# Altium footprint library PartsLib.PcbLib: 49 footprints (part 2 of 4)
Each footprint in its own frame and in the unit in brackets; x right, y up, seen from the top. Pads: shape width x height; smd on the part's side, far side on the other; paste and mask are expansions set on the pad; w line width, h text height; cw(c..) or ccw(c..) is an arc to the next point about the centre after c.
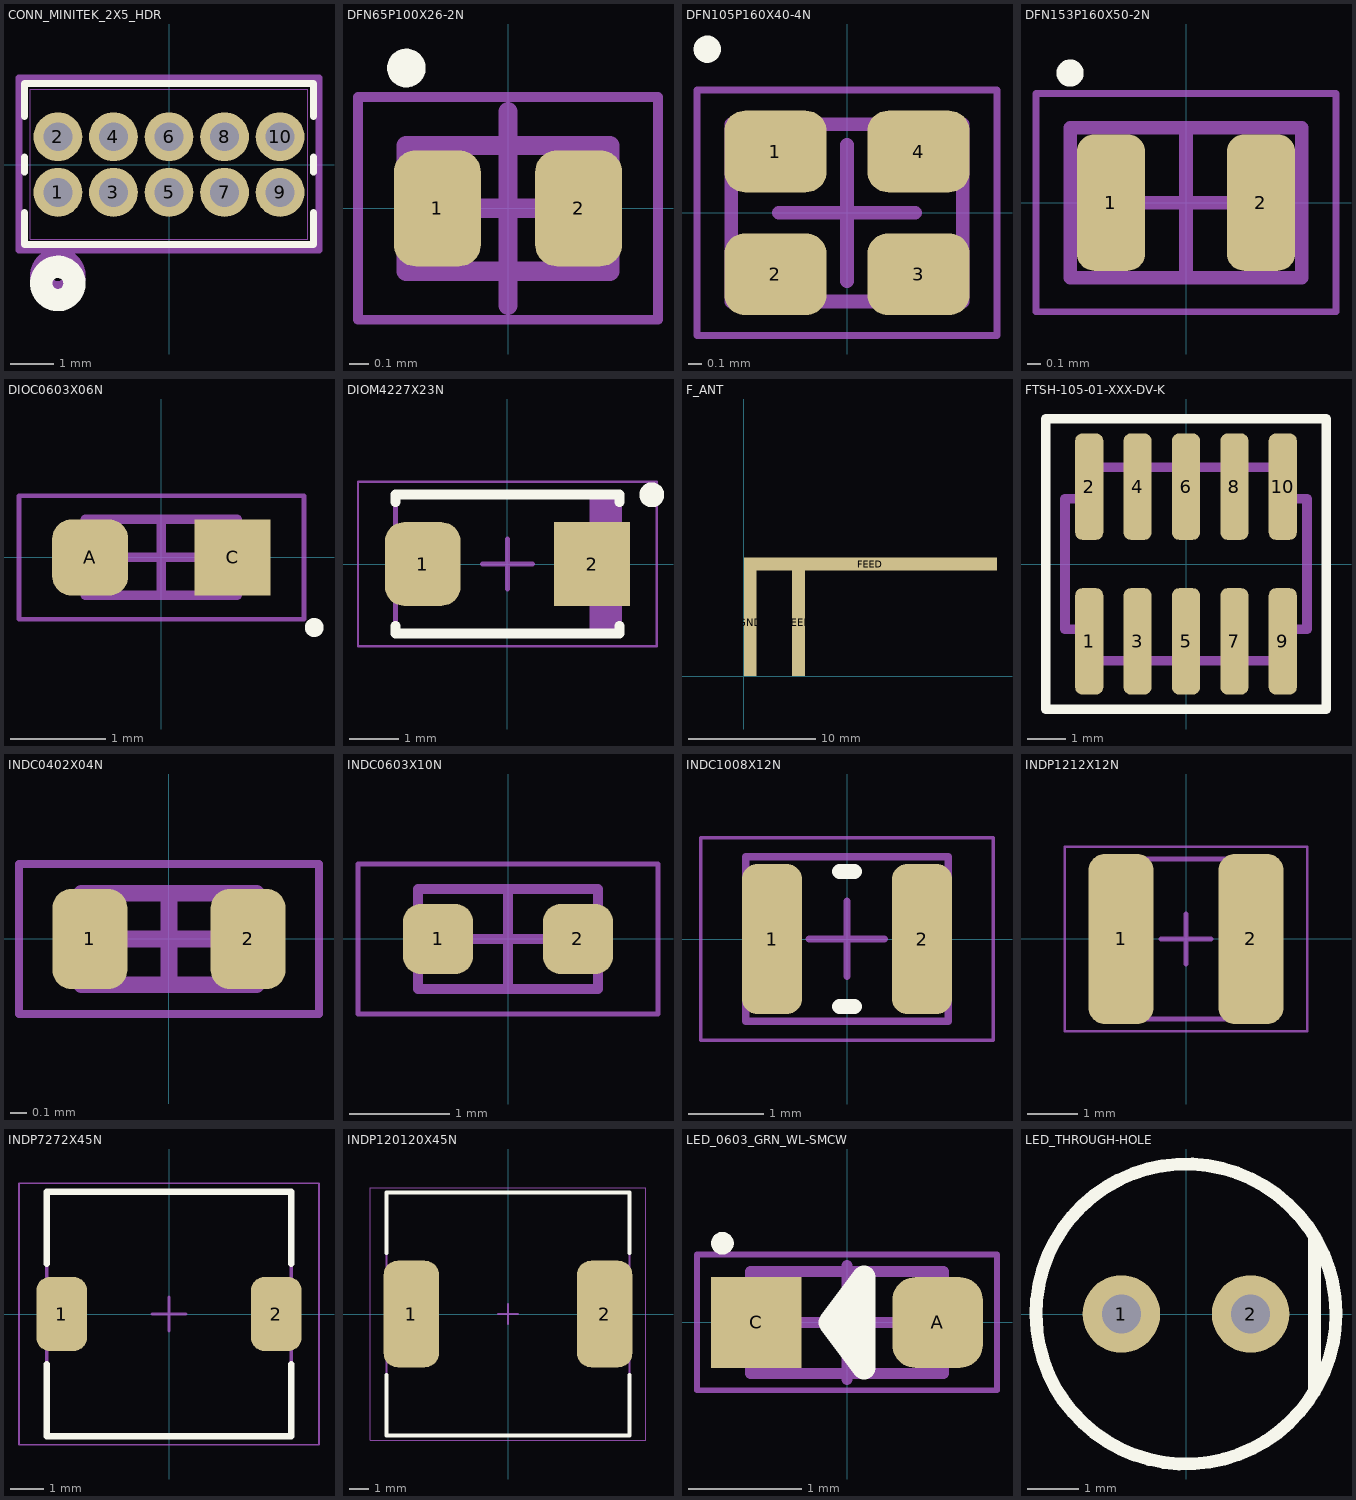
[diagram p1: the footprints below, top view; thin cyan lines are the x and y axes]

## CONN_MINITEK_2X5_HDR [mil]
pads (10):
  round 44 hole 26 mask+2.36: 1(-100,-25) 2(-100,25) 3(-50,-25) 4(-50,25) 5(0,-25) 6(0,25) 8(50,25) 10(100,25)
  round 44 hole 26 mask+2: 7(50,-25) 9(100,-25)
Top Overlay:
  circle w20: c-100,-107 r15
  lines w6: -130,-43.22 -130,-72 130,-72 130,-43.22 ; -130,-6.78 -130,6.78 ; -130,43.22 -130,73 130,73 130,43.22 ; 130,-6.78 130,6.78
Bottom Overlay:
  circle w20: c-100,-107 r15
Mechanical 13:
  circle w20: c-100,-100 r15
  lines w1: -125,-67 125,-67 125,68 -125,68 -125,-67
  text ".Designator" at -120.28,-53.75 h25.59
Mechanical 15:
  lines w6: -135,-77 -135,78 135,78 135,-77 -135,-77
3D body: height 10, standoff 0, extent -125.2,-66.54 124.8,67.72
3D body: height 10, standoff 0, extent 0,0 10,10

## DFN65P100X26-2N [mm] "DFN, 2-Leads, Body 0.60x1.00mm, Pitch 0.65mm, IPC Medium Density"
height 0.26
pads (2):
  rrect50% 0.45x0.6 smd mask+0.064: 1(-0.365,0) 2(0.365,0)
Top Overlay:
  circle w0.1: c-0.525,0.725 r0.05
Mechanical 13:
  lines w0.1: -0.525,-0.325 0.525,-0.325 0.525,0.325 -0.525,0.325 -0.525,-0.325
  text ".Designator" at -0.405,0.012 h0.65
Mechanical 15:
  lines w0.05: -0.775,-0.575 0.775,-0.575 0.775,0.575 -0.775,0.575 -0.775,-0.575
  lines w0.1: -0.5,0 0.5,0 ; 0,-0.5 0,0.5
3D body "DFN65P100X26-2N.step": height 0.26, standoff 0, extent -0.525,-0.325 0.525,0.325

## DFN105P160X40-4N [mm] "DFN, 4-Leads, Body 1.20x1.60mm, Pitch 1.05mm, IPC Medium Density"
height 0.4
pads (4):
  rrect50% 0.75x0.6 smd mask+0.064: 1(-0.525,0.45) 2(-0.525,-0.45) 3(0.525,-0.45) 4(0.525,0.45)
Top Overlay:
  circle w0.1: c-1.025,1.2 r0.05
Mechanical 13:
  lines w0.1: -0.85,-0.65 -0.85,0.65 0.85,0.65 0.85,-0.65 -0.85,-0.65
  text ".Designator" at -0.73,-0.313 h0.65
Mechanical 15:
  lines w0.05: -1.1,-0.9 -1.1,0.9 1.1,0.9 1.1,-0.9 -1.1,-0.9
  lines w0.1: -0.5,0 0.5,0 ; 0,-0.5 0,0.5
3D body "DFN105P160X40-4N.step": height 0.4, standoff 0, extent -0.85,-0.65 0.925,0.65

## DFN153P160X50-2N [mm] "DFN, 2-Leads, Body 1.00x1.60mm, Pitch 1.53mm, IPC Medium Density"
height 0.5
pads (2):
  rrect50% 0.5x1 smd mask+0.064: 1(-0.55,0) 2(0.55,0)
Top Overlay:
  circle w0.1: c-0.85,0.95 r0.05
Mechanical 13:
  lines w0.1: -0.85,-0.55 -0.85,0.55 0.85,0.55 0.85,-0.55 -0.85,-0.55
  text ".Designator" at -0.73,-0.213 h0.65
Mechanical 15:
  lines w0.05: -1.1,-0.8 -1.1,0.8 1.1,0.8 1.1,-0.8 -1.1,-0.8
  lines w0.1: -0.5,0 0.5,0 ; 0,-0.5 0,0.5
3D body "DFN153P160X50-2N.step": height 0.5, standoff 0, extent -0.99,-0.55 0.99,0.55

## DIOC0603X06N [mm] "Chip Diode, 2-Leads, Body 1.60x0.80mm, IPC Medium Density"
height 0.55
pads (2):
  rrect50% 0.8x0.8 smd mask+0.064: A(-0.75,0)
  rect 0.8x0.8 smd mask+0.064: C(0.75,0)
Top Overlay:
  circle w0.1: c1.609,-0.738 r0.05
Mechanical 13:
  lines w0.1: -0.8,-0.4 0.8,-0.4 0.8,0.4 -0.8,0.4 -0.8,-0.4
  text ".Designator" at -0.68,-0.063 h0.65
Mechanical 15:
  lines w0.05: -1.5,-0.65 1.5,-0.65 1.5,0.65 -1.5,0.65 -1.5,-0.65
  lines w0.1: -0.4,0 0.4,0 ; 0,-0.4 0,0.4
3D body "LTST-C191KRKT.STEP": height 0.8, standoff 0, extent -0.8,-0.4 0.8,0.4

## DIOM4227X23N [mm] "Molded Diode, 2-Leads, Body 4.25x2.67mm, IPC Medium Density"
height 2.29
pads (2):
  rrect50% 1.52x1.68 smd mask+0.064: 1(-1.7,0)
  rect 1.52x1.68 smd mask+0.064: 2(1.7,0)
Top Overlay:
  circle w0.25: c2.9,1.39 r0.125
  lines w0.2: -2.25,-1.24 -2.25,-1.4 2.25,-1.4 2.25,-1.24 ; -2.25,1.24 -2.25,1.4 2.25,1.4 2.25,1.24
Mechanical 13:
  rectangle: 1.645,-1.395 2.25,1.395
  lines w0.1: -2.25,-1.395 2.25,-1.395 2.25,1.395 -2.25,1.395 -2.25,-1.395
  text ".Designator" at -2.13,-1.058 h0.65
Mechanical 15:
  lines w0.05: -3,-1.65 3,-1.65 3,1.65 -3,1.65 -3,-1.65
  lines w0.1: -0.5,0 0.5,0 ; 0,-0.5 0,0.5
3D body "DIOM4227X23N.step": height 2.29, standoff 0, extent -2.47,-1.395 2.47,1.395

## F_ANT [mil]
pads (3):
  rect 40x329 smd paste-1000 mask+0: FEED(169,164.5) GND(20,164.5)
  rect 782x39 smd paste-1000 mask+0: FEED(391,346.5)

## FTSH-105-01-XXX-DV-K [mil]
pads (10):
  rrect50% 29x110 smd mask+2.52: 1(-100,-80) 2(-100,80) 3(-50,-80) 4(-50,80) 5(0,-80) 6(0,80) 7(50,-80) 8(50,80) 9(100,-80) 10(100,80)
Top Overlay:
  lines w10: -145,-150 145,-150 145,150 -145,150 -145,-150
Mechanical 1:
  lines w10: -125,-67.5 -100,-67.5 -100,-100 100,-100 100,-67.5 125,-67.5 125,67.5 100,67.5 100,100 -100,100 -100,67.5 -125,67.5 -125,-67.5
Mechanical 13:
  text ".Designator" at -112.28,-7.75 h25.59
3D body "FTSH-105-01-LM-DV-K.stp": height 240.75, standoff -0.25, extent -124.99,-114.99 125,115

## INDC0402X04N [mm] "Chip Inductor, 2-Leads, Body 1.00x0.50mm, IPC Medium Density"
height 0.37
pads (2):
  rrect50% 0.45x0.6 smd mask+0.064: 1(-0.475,0) 2(0.475,0)
Mechanical 13:
  lines w0.1: -0.525,-0.275 -0.525,0.275 0.525,0.275 0.525,-0.275 -0.525,-0.275
  text ".Designator" at -0.405,0.062 h0.65
Mechanical 15:
  lines w0.05: -0.9,-0.45 -0.9,0.45 0.9,0.45 0.9,-0.45 -0.9,-0.45
  lines w0.1: -0.275,0 0.275,0 ; 0,-0.275 0,0.275
3D body "INDC0402X04N.step": height 0.37, standoff 0, extent -0.525,-0.275 0.525,0.275

## INDC0603X10N [mm] "Chip Inductor, 2-Leads, Body 1.60x0.80mm, IPC Medium Density"
height 1
pads (2):
  rrect50% 0.7x0.7 smd mask+0.064: 1(-0.7,0) 2(0.7,0)
Mechanical 13:
  lines w0.1: -0.9,-0.5 -0.9,0.5 0.9,0.5 0.9,-0.5 -0.9,-0.5
  text ".Designator" at -0.78,-0.163 h0.65
Mechanical 15:
  lines w0.05: -1.5,-0.75 -1.5,0.75 1.5,0.75 1.5,-0.75 -1.5,-0.75
  lines w0.1: -0.5,0 0.5,0 ; 0,-0.5 0,0.5
3D body "INDC0603X10N.step": height 1, standoff 0, extent -0.9,-0.5 0.9,0.5

## INDC1008X12N [mm] "Chip Inductor, 2-Leads, Body 2.50x2.00mm, IPC Medium Density"
height 1.2
pads (2):
  rrect50% 0.8x2 smd mask+0.064: 1(-1,0) 2(1,0)
Top Overlay:
  lines w0.2: -0.1,-0.9 0.1,-0.9 ; -0.1,0.9 0.1,0.9
Mechanical 13:
  lines w0.1: -1.35,-1.1 -1.35,1.1 1.35,1.1 1.35,-1.1 -1.35,-1.1
  text ".Designator" at -1.23,-0.763 h0.65
Mechanical 15:
  lines w0.05: -1.95,-1.35 -1.95,1.35 1.95,1.35 1.95,-1.35 -1.95,-1.35
  lines w0.1: -0.5,0 0.5,0 ; 0,-0.5 0,0.5
3D body "INDC1008X12N.step": height 1.2, standoff 0, extent -1.35,-1.1 1.35,1.1

## INDP1212X12N [mm] "Precision Wire Wound Inductor, 2-Leads, Body 3.00x3.00mm, IPC Medium Density"
height 1.2
pads (2):
  rrect50% 1.3x3.4 smd mask+0.064: 1(-1.3,0) 2(1.3,0)
Mechanical 13:
  lines w0.1: -1.6,-1.6 1.6,-1.6 1.6,1.6 -1.6,1.6 -1.6,-1.6
  text ".Designator" at -1.48,-1.263 h0.65
Mechanical 15:
  lines w0.05: -2.425,-1.85 2.425,-1.85 2.425,1.85 -2.425,1.85 -2.425,-1.85
  lines w0.1: -0.5,0 0.5,0 ; 0,-0.5 0,0.5
3D body "INDP1212X12N.step": height 1.3, standoff 0, extent -1.6,-1.5 1.6,1.5

## INDP7272X45N [mm] "Precision Wire Wound Inductor, 2-Leads, Body 7.20x7.20mm, IPC Medium Density"
height 4.5
pads (2):
  rrect50% 1.5x2.2 smd mask+0.064: 1(-3.2,0) 2(3.2,0)
Top Overlay:
  lines w0.2: -3.65,-1.5 -3.65,-3.65 3.65,-3.65 3.65,-1.5 ; -3.65,1.5 -3.65,3.65 3.65,3.65 3.65,1.5
Mechanical 13:
  lines w0.1: -3.65,-3.65 -3.65,3.65 3.65,3.65 3.65,-3.65 -3.65,-3.65
  text ".Designator" at -3.53,-3.313 h0.65
Mechanical 15:
  lines w0.05: -4.475,-3.9 -4.475,3.9 4.475,3.9 4.475,-3.9 -4.475,-3.9
  lines w0.1: -0.5,0 0.5,0 ; 0,-0.5 0,0.5
3D body "INDP7272X45N.step": height 4.6, standoff 0, extent -3.7,-3.6 3.7,3.6

## INDP120120X45N [mm] "Precision Wire Wound Inductor, 2-Leads, Body 12.00x12.00mm, IPC Medium Density"
height 4.5
pads (2):
  rrect50% 2.8x5.4 smd mask+0.064: 1(-4.9,0) 2(4.9,0)
Top Overlay:
  lines w0.2: -6.15,-3.1 -6.15,-6.15 6.15,-6.15 6.15,-3.1 ; -6.15,3.1 -6.15,6.15 6.15,6.15 6.15,3.1
Mechanical 13:
  lines w0.1: -6.15,-6.15 6.15,-6.15 6.15,6.15 -6.15,6.15 -6.15,-6.15
  text ".Designator" at -6.03,-5.813 h0.65
Mechanical 15:
  lines w0.05: -6.975,-6.4 6.975,-6.4 6.975,6.4 -6.975,6.4 -6.975,-6.4
  lines w0.1: -0.5,0 0.5,0 ; 0,-0.5 0,0.5
3D body "INDP120120X45N.step": height 4.6, standoff 0, extent -6.1,-6 6.1,6

## LED_0603_GRN_WL-SMCW [mm] "SODFL, 2-Leads, Body 0.80x1.80mm, IPC Medium Density"
height 0.8
pads (2):
  rrect50% 0.8x0.8 smd: A(0.8,0)
  rect 0.8x0.8 smd: C(-0.8,0)
Top Overlay:
  circle w0.1: c-1.1,0.7 r0.05
  lines w0.2: -0.15,0 0.05,0
  lines w0.205: -0.15,0 0.15,0.4 0.15,-0.4 -0.15,0
Mechanical 13:
  lines w0.1: -0.85,-0.45 0.85,-0.45 0.85,0.45 -0.85,0.45 -0.85,-0.45
  text ".Designator" at -0.723,-0.254 h0.5
Mechanical 15:
  lines w0.05: -1.325,-0.6 1.325,-0.6 1.325,0.6 -1.325,0.6 -1.325,-0.6
  lines w0.1: -0.5,0 0.5,0 ; 0,-0.5 0,0.5
3D body "LED_0603_WURTH_WL-SMCW_base.step": height 0.65, standoff 0.01, extent -0.8,-0.4 0.8,0.4
3D body "LED_0603_WURTH_WL-SMCW_lens.step": height 0.71, standoff 0.31, extent -0.55,-0.4 0.55,0.4

## LED_THROUGH-HOLE [mil]
pads (2):
  round 60 hole 30: 1(-50,0) 2(50,0)
Top Overlay:
  lines w10: 99.41,-60.04 99.41,60.04 ; 116.14,0 cw(c0,0) 116.14,1.21
Mechanical 13:
  text ".Designator" at -95.67,-86.16 h25.59
3D body "Diode_Everlight_IR333-A_eec.STEP": height 349.54, standoff -1027.79, extent -116.14,-114.38 98.43,117.89